# EAGLE library part 66100611722 (library WR-WTB)
WR-WTB 2.54 mm Male Right Angled Shrouded Header Material Properties Insulator Material co Insulator Flammability Rating UL94 V-0 Color Black Contact Material Phosphor Bronze Contact Plating Tin Packaging Properties Packaging Box General Information Operating Temperature -40 °C up to +125 °C Compliance RoHS IR 3 A Working Voltage 50 V (AC) Withstanding Voltage 500 V (AC) Contact Resistance 20 mΩ Pitch 2.54 mm Gender Male Type Right Angled Details see: www.we-online.com/en/components/products/WTB_2_54_MALE_RIGHT_ANGLED_SHROUDED_HEADER_GLOW_WIRE_PLASTIC_6610XXX1722 Updated by Ella 2025-03-06 2025 (C) Würth Elektronik
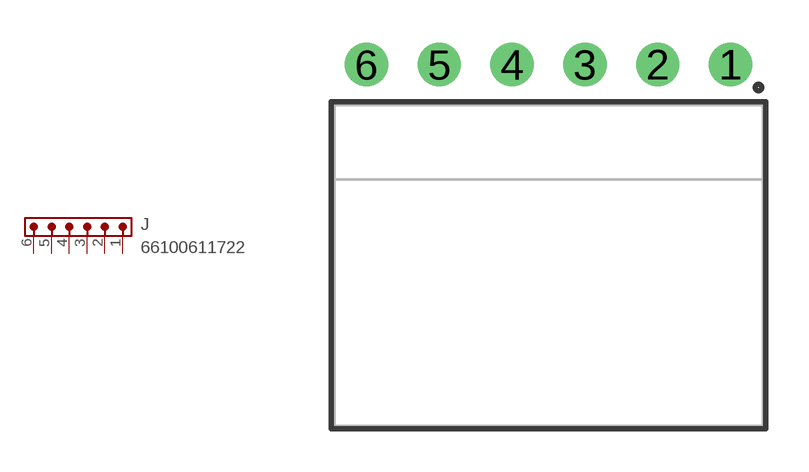
[diagram p120: symbol with the pads of 66100611722; footprint 66100611722]

Designator prefix J

## 66100611722 (CONTACT-RESISTANCE: 20mOhm; DATASHEET: https://www.we-online.com/redexpert/spec/66100611722?ae; GENDER: Male; IR: 3A; L: 14.94mm; MOUNT: THT; PACKAGING: Box; PART-NUMBER: 66100611722; PCB-CABLE-PANEL: PCB; PINS: 6; PITCH: 2.54mm; TYPE: Right Angled; VALUE: 66100611722; WORKING-VOLTAGE: 50V(AC))  [66100611722]
1  1  pas
2  2  pas
3  3  pas
4  4  pas
5  5  pas
6  6  pas

## Footprint 66100611722 (pad centres in mm)
WR-WTB 2.54 mm Male Right Angled Shrouded Header,6Pins
drill 1: 1 6.35,2.7; 2 3.81,2.7; 3 1.27,2.7; 4 -1.27,2.7; 5 -3.81,2.7; 6 -6.35,2.7